# Altium integrated library TI Power Management Lighting and Display.IntLib: 745 symbols (part 26 of 48)
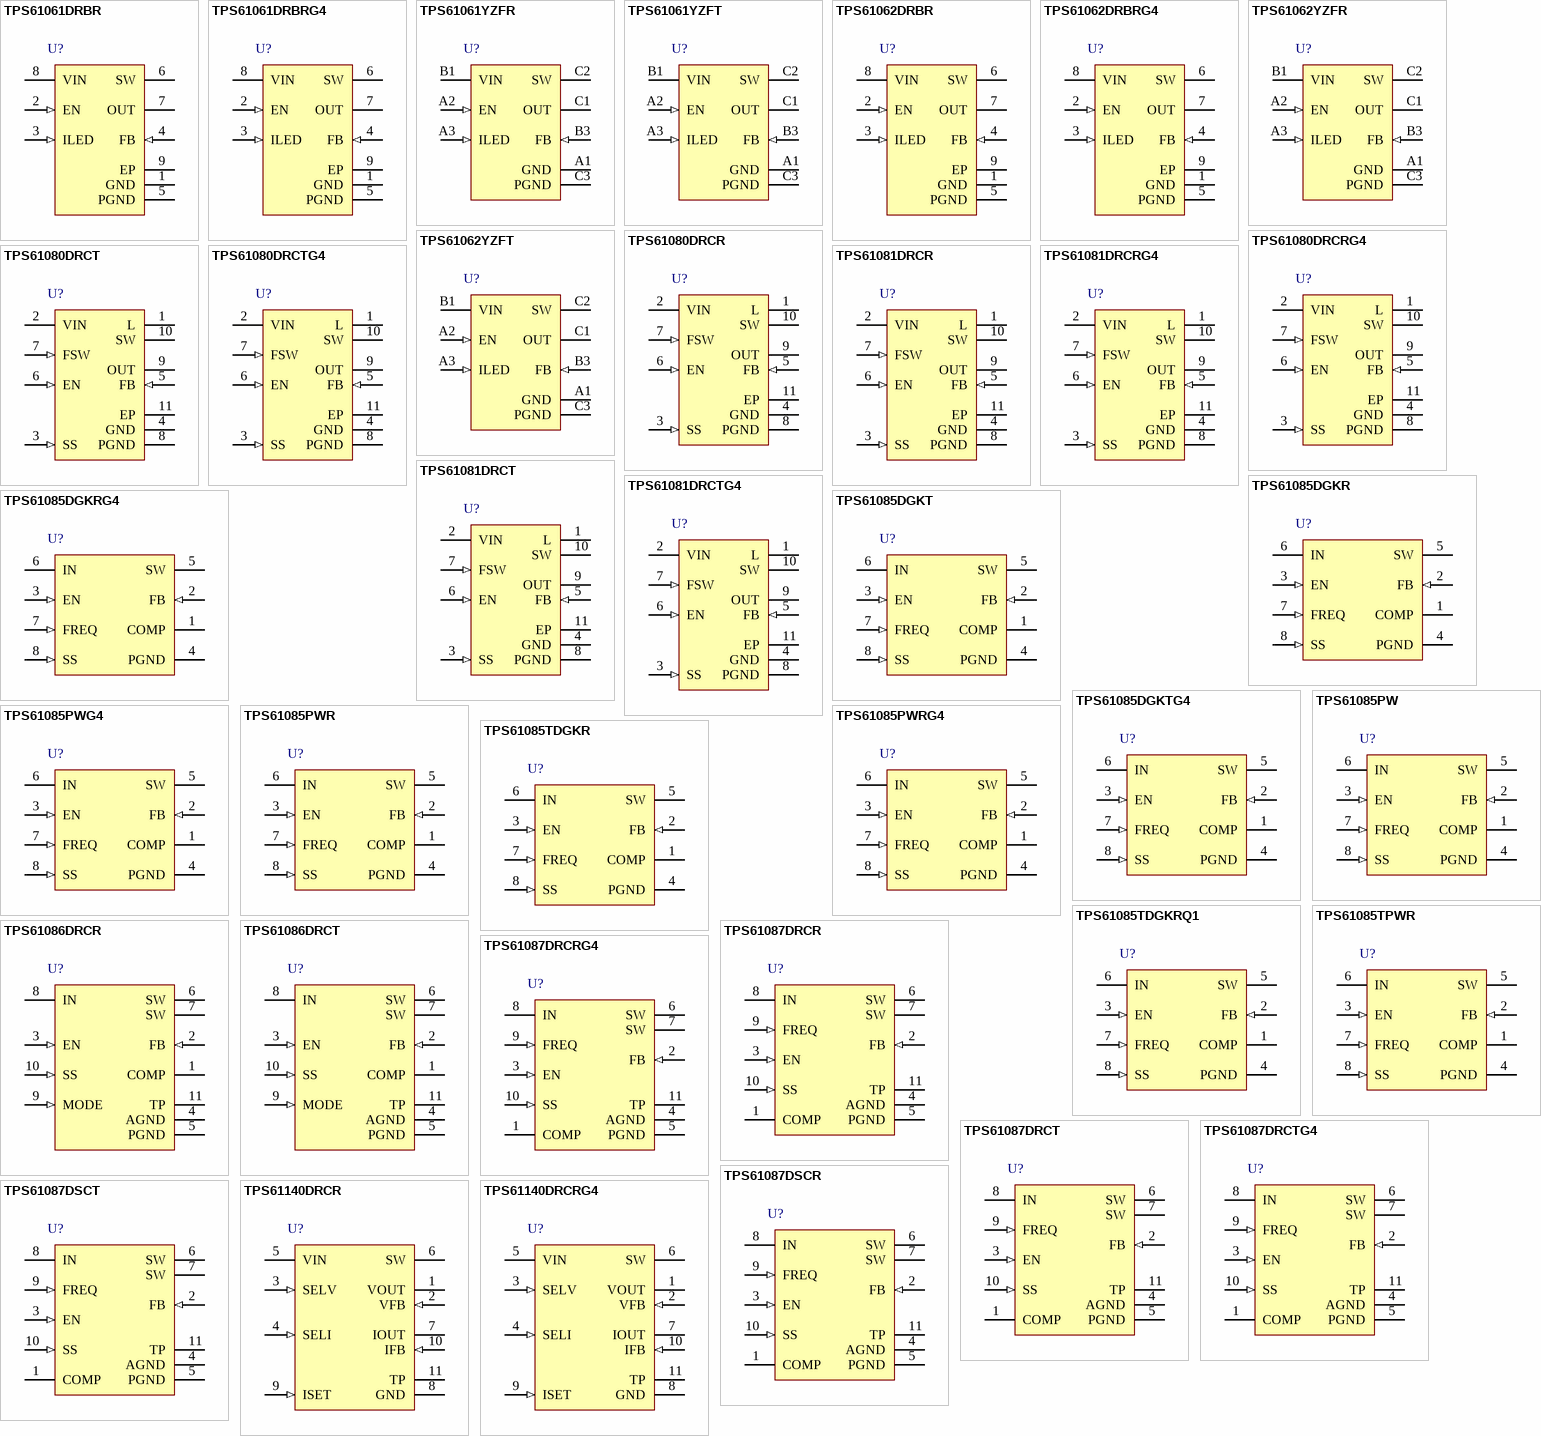
[diagram p56: symbols TPS61061DRBR to TPS61140DRCRG4]

## TPS61080DRCRG4
designator U?
27 V, 500 mA Switch, 1.2 MHz Boost Converter with Integrated Power Diode, 2.5 to 6 V, -40 to 85 degC, 10-pin SON (DRC10), Green (RoHS & no Sb/Br); Manufacturer: Texas Instruments; PartNumber: TPS61080DRCRG4; Iout(Max)(A): 0.2; Iq(Typ)(mA): 6; Rating: Catalog; SubFamily: White LED Driver; Switching Frequency(Max)(kHz): 1200; Synchronous Rectification: TRUE; Vin(Min)(V): 2.5; DatasheetVersion: SLVS644C; PackageVersion: 4204102-3/L; PackageReference: DRC10-2400X1650TP; PackageDescription: 10-Pin Plastic Small Outline, Body 3 x 3 mm, Pitch 0.5 mm; Supplier 1: Digi-Key; Supplier Part Number 1: TPS61080DRCRG4-ND; Supplier 2: Newark; Supplier Part Number 2: 34M0181; Supplier 3: Mouser; Supplier Part Number 3: 595-TPS61080DRCRG4; Eco-Plan: Green (RoHS & no Sb/Br); Topology: Boost; Vin(Max)(V): 6; Mounting Technology: Surface Mount; ComponentLink1Description: Manufacturer URL; ComponentLink1URL: http://www.ti.com/; ComponentLink2Description: Datasheet; ComponentLink2URL: http://www.ti.com/general/docs/lit/getliterature.tsp?genericPartNumber=TPS61080&fileType=pdf; ComponentLink3Description: Package Specification; ComponentLink3URL: http://www.ti.com/litv/pdf/mpds117k
footprint TI-DRC10-2400X1650TP_V (SON, 10-Leads, Body 3x3mm, Pitch 0.5mm, Thermal Pad 3x1.65mm)
pins: 1 L (power) "The inductor is connected between this pin and the SW pin. This pin connects to the source of the isolation FET as well. Minimize trace area at this pin to reduce EMI.", 2 VIN (power) "Input pin to the IC. It is the input to the boost regulator, and also powers the IC circuit. It is connected tothe drain of the isolation FET as well.", 3 SS (in) "Soft start programming pin. A capacitor between the SS pin and GND pin programs soft start timing.", 4 GND (power) "Signal ground of the IC", 5 FB (in) "Voltage feedback pin for the output regulation. It is regulated to an internal reference voltage. An external voltage divider from the output to GND with the center tap connected to this pin programs the regulated voltage. (See Datasheet)", 6 EN (in) "Enable pin. When the voltage of this pin falls below enable threshold for more than 74ms, the IC turns off and consumes less than 2 uA current.", 7 FSW (in) "Switching frequency selection pin. Logic high on the pin selects 1.2MHz, while logic low reduces the frequency to 600KHz for better light load efficiency.", 8 PGND (power) "Power ground of the IC. It is connected to the source of the PWM switch. This pin should be made very close to the output capacitor in layout.", 9 OUT (power) "Output of the boost regulator. When the output voltage exceeds the 27V overvoltage protection (OVP) threshold, the PWM switch turns off until Vout drops 0.7V below the overvoltage threshold.", 10 SW (power) "Switching node of the IC. Connect the inductor between this pin and the L pin.", 11 EP (power) "The thermal pad should be soldered to the analog ground. If possible, use thermal via to connect to ground plane for ideal power dissipation."

## TPS61080DRCT
designator U?
27 V, 500 mA Switch, 1.2 MHz Boost Converter with Integrated Power Diode, 2.5 to 6 V, -40 to 85 degC, 10-pin SON (DRC10), Green (RoHS & no Sb/Br); Manufacturer: Texas Instruments; PartNumber: TPS61080DRCT; Iout(Max)(A): 0.2; Iq(Typ)(mA): 6; Rating: Catalog; SubFamily: White LED Driver; Switching Frequency(Max)(kHz): 1200; Synchronous Rectification: TRUE; Vin(Min)(V): 2.5; DatasheetVersion: SLVS644C; PackageVersion: 4204102-3/L; PackageReference: DRC10-2400X1650TP; PackageDescription: 10-Pin Plastic Small Outline, Body 3 x 3 mm, Pitch 0.5 mm; Supplier 1: Digi-Key; Supplier Part Number 1: 296-21555-2-ND; Supplier 2: Digi-Key; Supplier Part Number 2: 296-21555-1-ND; Supplier 3: Digi-Key; Supplier Part Number 3: 296-21555-6-ND; Supplier 4: Newark; Supplier Part Number 4: 59M9398; Supplier 5: Mouser; Supplier Part Number 5: 595-TPS61080DRCT; Eco-Plan: Green (RoHS & no Sb/Br); Topology: Boost; Vin(Max)(V): 6; Mounting Technology: Surface Mount; ComponentLink1Description: Manufacturer URL; ComponentLink1URL: http://www.ti.com/; ComponentLink2Description: Datasheet; ComponentLink2URL: http://www.ti.com/general/docs/lit/getliterature.tsp?genericPartNumber=TPS61080&fileType=pdf; ComponentLink3Description: Package Specification; ComponentLink3URL: http://www.ti.com/litv/pdf/mpds117k
footprint TI-DRC10-2400X1650TP_V (SON, 10-Leads, Body 3x3mm, Pitch 0.5mm, Thermal Pad 3x1.65mm)
pins: 1 L (power) "The inductor is connected between this pin and the SW pin. This pin connects to the source of the isolation FET as well. Minimize trace area at this pin to reduce EMI.", 2 VIN (power) "Input pin to the IC. It is the input to the boost regulator, and also powers the IC circuit. It is connected tothe drain of the isolation FET as well.", 3 SS (in) "Soft start programming pin. A capacitor between the SS pin and GND pin programs soft start timing.", 4 GND (power) "Signal ground of the IC", 5 FB (in) "Voltage feedback pin for the output regulation. It is regulated to an internal reference voltage. An external voltage divider from the output to GND with the center tap connected to this pin programs the regulated voltage. (See Datasheet)", 6 EN (in) "Enable pin. When the voltage of this pin falls below enable threshold for more than 74ms, the IC turns off and consumes less than 2 uA current.", 7 FSW (in) "Switching frequency selection pin. Logic high on the pin selects 1.2MHz, while logic low reduces the frequency to 600KHz for better light load efficiency.", 8 PGND (power) "Power ground of the IC. It is connected to the source of the PWM switch. This pin should be made very close to the output capacitor in layout.", 9 OUT (power) "Output of the boost regulator. When the output voltage exceeds the 27V overvoltage protection (OVP) threshold, the PWM switch turns off until Vout drops 0.7V below the overvoltage threshold.", 10 SW (power) "Switching node of the IC. Connect the inductor between this pin and the L pin.", 11 EP (power) "The thermal pad should be soldered to the analog ground. If possible, use thermal via to connect to ground plane for ideal power dissipation."

## TPS61080DRCTG4
designator U?
27 V, 500 mA Switch, 1.2 MHz Boost Converter with Integrated Power Diode, 2.5 to 6 V, -40 to 85 degC, 10-pin SON (DRC10), Green (RoHS & no Sb/Br); Manufacturer: Texas Instruments; PartNumber: TPS61080DRCTG4; Iout(Max)(A): 0.2; Iq(Typ)(mA): 6; Rating: Catalog; SubFamily: White LED Driver; Switching Frequency(Max)(kHz): 1200; Synchronous Rectification: TRUE; Vin(Min)(V): 2.5; DatasheetVersion: SLVS644C; PackageVersion: 4204102-3/L; PackageReference: DRC10-2400X1650TP; PackageDescription: 10-Pin Plastic Small Outline, Body 3 x 3 mm, Pitch 0.5 mm; Supplier 1: Digi-Key; Supplier Part Number 1: TPS61080DRCTG4-ND; Supplier 2: Farnell; Supplier Part Number 2: 1344378; Supplier 3: Farnell; Supplier Part Number 3: 1344378RL; Supplier 4: Newark; Supplier Part Number 4: 51M8057; Supplier 5: Newark; Supplier Part Number 5: 34M0182; Supplier 6: Mouser; Supplier Part Number 6: 595-TPS61080DRCTG4; Eco-Plan: Green (RoHS & no Sb/Br); Topology: Boost; Vin(Max)(V): 6; Mounting Technology: Surface Mount; ComponentLink1Description: Manufacturer URL; ComponentLink1URL: http://www.ti.com/; ComponentLink2Description: Datasheet; ComponentLink2URL: http://www.ti.com/general/docs/lit/getliterature.tsp?genericPartNumber=TPS61080&fileType=pdf; ComponentLink3Description: Package Specification; ComponentLink3URL: http://www.ti.com/litv/pdf/mpds117k
footprint TI-DRC10-2400X1650TP_V (SON, 10-Leads, Body 3x3mm, Pitch 0.5mm, Thermal Pad 3x1.65mm)
pins: 1 L (power) "The inductor is connected between this pin and the SW pin. This pin connects to the source of the isolation FET as well. Minimize trace area at this pin to reduce EMI.", 2 VIN (power) "Input pin to the IC. It is the input to the boost regulator, and also powers the IC circuit. It is connected tothe drain of the isolation FET as well.", 3 SS (in) "Soft start programming pin. A capacitor between the SS pin and GND pin programs soft start timing.", 4 GND (power) "Signal ground of the IC", 5 FB (in) "Voltage feedback pin for the output regulation. It is regulated to an internal reference voltage. An external voltage divider from the output to GND with the center tap connected to this pin programs the regulated voltage. (See Datasheet)", 6 EN (in) "Enable pin. When the voltage of this pin falls below enable threshold for more than 74ms, the IC turns off and consumes less than 2 uA current.", 7 FSW (in) "Switching frequency selection pin. Logic high on the pin selects 1.2MHz, while logic low reduces the frequency to 600KHz for better light load efficiency.", 8 PGND (power) "Power ground of the IC. It is connected to the source of the PWM switch. This pin should be made very close to the output capacitor in layout.", 9 OUT (power) "Output of the boost regulator. When the output voltage exceeds the 27V overvoltage protection (OVP) threshold, the PWM switch turns off until Vout drops 0.7V below the overvoltage threshold.", 10 SW (power) "Switching node of the IC. Connect the inductor between this pin and the L pin.", 11 EP (power) "The thermal pad should be soldered to the analog ground. If possible, use thermal via to connect to ground plane for ideal power dissipation."

## TPS61081DRCR
designator U?
27 V, 1.2 A Switch, 1.2 MHz Boost Converter with Integrated Power Diode, 2.5 to 6 V, -40 to 85 degC, 10-pin SON (DRC10), Green (RoHS & no Sb/Br); Manufacturer: Texas Instruments; PartNumber: TPS61081DRCR; Iout(Max)(A): 0.35; Iq(Typ)(mA): 6; Rating: Catalog; SubFamily: White LED Driver; Switching Frequency(Max)(kHz): 1200; Synchronous Rectification: TRUE; Vin(Min)(V): 2.5; DatasheetVersion: SLVS644C; PackageVersion: 4204102-3/L; PackageReference: DRC10-2400X1650TP; PackageDescription: 10-Pin Plastic Small Outline, Body 3 x 3 mm, Pitch 0.5 mm; Supplier 1: Digi-Key; Supplier Part Number 1: 296-28007-2-ND; Supplier 2: Digi-Key; Supplier Part Number 2: 296-28007-1-ND; Supplier 3: Digi-Key; Supplier Part Number 3: 296-28007-6-ND; Supplier 4: Newark; Supplier Part Number 4: 30M1832; Supplier 5: Mouser; Supplier Part Number 5: 595-TPS61081DRCR; Eco-Plan: Green (RoHS & no Sb/Br); Topology: Boost; Vin(Max)(V): 6; Mounting Technology: Surface Mount; ComponentLink1Description: Manufacturer URL; ComponentLink1URL: http://www.ti.com/; ComponentLink2Description: Datasheet; ComponentLink2URL: http://www.ti.com/general/docs/lit/getliterature.tsp?genericPartNumber=TPS61081&fileType=pdf; ComponentLink3Description: Package Specification; ComponentLink3URL: http://www.ti.com/litv/pdf/mpds117k
footprint TI-DRC10-2400X1650TP_V (SON, 10-Leads, Body 3x3mm, Pitch 0.5mm, Thermal Pad 3x1.65mm)
pins: 1 L (power) "The inductor is connected between this pin and the SW pin. This pin connects to the source of the isolation FET as well. Minimize trace area at this pin to reduce EMI.", 2 VIN (power) "Input pin to the IC. It is the input to the boost regulator, and also powers the IC circuit. It is connected tothe drain of the isolation FET as well.", 3 SS (in) "Soft start programming pin. A capacitor between the SS pin and GND pin programs soft start timing.", 4 GND (power) "Signal ground of the IC", 5 FB (in) "Voltage feedback pin for the output regulation. It is regulated to an internal reference voltage. An external voltage divider from the output to GND with the center tap connected to this pin programs the regulated voltage. (See Datasheet)", 6 EN (in) "Enable pin. When the voltage of this pin falls below enable threshold for more than 74ms, the IC turns off and consumes less than 2 uA current.", 7 FSW (in) "Switching frequency selection pin. Logic high on the pin selects 1.2MHz, while logic low reduces the frequency to 600KHz for better light load efficiency.", 8 PGND (power) "Power ground of the IC. It is connected to the source of the PWM switch. This pin should be made very close to the output capacitor in layout.", 9 OUT (power) "Output of the boost regulator. When the output voltage exceeds the 27V overvoltage protection (OVP) threshold, the PWM switch turns off until Vout drops 0.7V below the overvoltage threshold.", 10 SW (power) "Switching node of the IC. Connect the inductor between this pin and the L pin.", 11 EP (power) "The thermal pad should be soldered to the analog ground. If possible, use thermal via to connect to ground plane for ideal power dissipation."

## TPS61081DRCRG4
designator U?
27 V, 1.2 A Switch, 1.2 MHz Boost Converter with Integrated Power Diode, 2.5 to 6 V, -40 to 85 degC, 10-pin SON (DRC10), Green (RoHS & no Sb/Br); Manufacturer: Texas Instruments; PartNumber: TPS61081DRCRG4; Iout(Max)(A): 0.35; Iq(Typ)(mA): 6; Rating: Catalog; SubFamily: White LED Driver; Switching Frequency(Max)(kHz): 1200; Synchronous Rectification: TRUE; Vin(Min)(V): 2.5; DatasheetVersion: SLVS644C; PackageVersion: 4204102-3/L; PackageReference: DRC10-2400X1650TP; PackageDescription: 10-Pin Plastic Small Outline, Body 3 x 3 mm, Pitch 0.5 mm; Supplier 1: Digi-Key; Supplier Part Number 1: TPS61081DRCRG4-ND; Supplier 2: Newark; Supplier Part Number 2: 34M0183; Supplier 3: Mouser; Supplier Part Number 3: 595-TPS61081DRCRG4; Eco-Plan: Green (RoHS & no Sb/Br); Topology: Boost; Vin(Max)(V): 6; Mounting Technology: Surface Mount; ComponentLink1Description: Manufacturer URL; ComponentLink1URL: http://www.ti.com/; ComponentLink2Description: Datasheet; ComponentLink2URL: http://www.ti.com/general/docs/lit/getliterature.tsp?genericPartNumber=TPS61081&fileType=pdf; ComponentLink3Description: Package Specification; ComponentLink3URL: http://www.ti.com/litv/pdf/mpds117k
footprint TI-DRC10-2400X1650TP_V (SON, 10-Leads, Body 3x3mm, Pitch 0.5mm, Thermal Pad 3x1.65mm)
pins: 1 L (power) "The inductor is connected between this pin and the SW pin. This pin connects to the source of the isolation FET as well. Minimize trace area at this pin to reduce EMI.", 2 VIN (power) "Input pin to the IC. It is the input to the boost regulator, and also powers the IC circuit. It is connected tothe drain of the isolation FET as well.", 3 SS (in) "Soft start programming pin. A capacitor between the SS pin and GND pin programs soft start timing.", 4 GND (power) "Signal ground of the IC", 5 FB (in) "Voltage feedback pin for the output regulation. It is regulated to an internal reference voltage. An external voltage divider from the output to GND with the center tap connected to this pin programs the regulated voltage. (See Datasheet)", 6 EN (in) "Enable pin. When the voltage of this pin falls below enable threshold for more than 74ms, the IC turns off and consumes less than 2 uA current.", 7 FSW (in) "Switching frequency selection pin. Logic high on the pin selects 1.2MHz, while logic low reduces the frequency to 600KHz for better light load efficiency.", 8 PGND (power) "Power ground of the IC. It is connected to the source of the PWM switch. This pin should be made very close to the output capacitor in layout.", 9 OUT (power) "Output of the boost regulator. When the output voltage exceeds the 27V overvoltage protection (OVP) threshold, the PWM switch turns off until Vout drops 0.7V below the overvoltage threshold.", 10 SW (power) "Switching node of the IC. Connect the inductor between this pin and the L pin.", 11 EP (power) "The thermal pad should be soldered to the analog ground. If possible, use thermal via to connect to ground plane for ideal power dissipation."

## TPS61081DRCT
designator U?
27 V, 1.2 A Switch, 1.2 MHz Boost Converter with Integrated Power Diode, 2.5 to 6 V, -40 to 85 degC, 10-pin SON (DRC10), Green (RoHS & no Sb/Br); Manufacturer: Texas Instruments; PartNumber: TPS61081DRCT; Iout(Max)(A): 0.35; Iq(Typ)(mA): 6; Rating: Catalog; SubFamily: White LED Driver; Switching Frequency(Max)(kHz): 1200; Synchronous Rectification: TRUE; Vin(Min)(V): 2.5; DatasheetVersion: SLVS644C; PackageVersion: 4204102-3/L; PackageReference: DRC10-2400X1650TP; PackageDescription: 10-Pin Plastic Small Outline, Body 3 x 3 mm, Pitch 0.5 mm; Supplier 1: Digi-Key; Supplier Part Number 1: 296-21556-2-ND; Supplier 2: Digi-Key; Supplier Part Number 2: 296-21556-1-ND; Supplier 3: Digi-Key; Supplier Part Number 3: 296-21556-6-ND; Supplier 4: Newark; Supplier Part Number 4: 30M1833; Supplier 5: Mouser; Supplier Part Number 5: 595-TPS61081DRCT; Eco-Plan: Green (RoHS & no Sb/Br); Topology: Boost; Vin(Max)(V): 6; Mounting Technology: Surface Mount; ComponentLink1Description: Manufacturer URL; ComponentLink1URL: http://www.ti.com/; ComponentLink2Description: Datasheet; ComponentLink2URL: http://www.ti.com/general/docs/lit/getliterature.tsp?genericPartNumber=TPS61081&fileType=pdf; ComponentLink3Description: Package Specification; ComponentLink3URL: http://www.ti.com/litv/pdf/mpds117k
footprint TI-DRC10-2400X1650TP_V (SON, 10-Leads, Body 3x3mm, Pitch 0.5mm, Thermal Pad 3x1.65mm)
pins: 1 L (power) "The inductor is connected between this pin and the SW pin. This pin connects to the source of the isolation FET as well. Minimize trace area at this pin to reduce EMI.", 2 VIN (power) "Input pin to the IC. It is the input to the boost regulator, and also powers the IC circuit. It is connected tothe drain of the isolation FET as well.", 3 SS (in) "Soft start programming pin. A capacitor between the SS pin and GND pin programs soft start timing.", 4 GND (power) "Signal ground of the IC", 5 FB (in) "Voltage feedback pin for the output regulation. It is regulated to an internal reference voltage. An external voltage divider from the output to GND with the center tap connected to this pin programs the regulated voltage. (See Datasheet)", 6 EN (in) "Enable pin. When the voltage of this pin falls below enable threshold for more than 74ms, the IC turns off and consumes less than 2 uA current.", 7 FSW (in) "Switching frequency selection pin. Logic high on the pin selects 1.2MHz, while logic low reduces the frequency to 600KHz for better light load efficiency.", 8 PGND (power) "Power ground of the IC. It is connected to the source of the PWM switch. This pin should be made very close to the output capacitor in layout.", 9 OUT (power) "Output of the boost regulator. When the output voltage exceeds the 27V overvoltage protection (OVP) threshold, the PWM switch turns off until Vout drops 0.7V below the overvoltage threshold.", 10 SW (power) "Switching node of the IC. Connect the inductor between this pin and the L pin.", 11 EP (power) "The thermal pad should be soldered to the analog ground. If possible, use thermal via to connect to ground plane for ideal power dissipation."

## TPS61081DRCTG4
designator U?
27 V, 1.2 A Switch, 1.2 MHz Boost Converter with Integrated Power Diode, 2.5 to 6 V, -40 to 85 degC, 10-pin SON (DRC10), Green (RoHS & no Sb/Br); Manufacturer: Texas Instruments; PartNumber: TPS61081DRCTG4; Iout(Max)(A): 0.35; Iq(Typ)(mA): 6; Rating: Catalog; SubFamily: White LED Driver; Switching Frequency(Max)(kHz): 1200; Synchronous Rectification: TRUE; Vin(Min)(V): 2.5; DatasheetVersion: SLVS644C; PackageVersion: 4204102-3/L; PackageReference: DRC10-2400X1650TP; PackageDescription: 10-Pin Plastic Small Outline, Body 3 x 3 mm, Pitch 0.5 mm; Supplier 1: Digi-Key; Supplier Part Number 1: TPS61081DRCTG4-ND; Supplier 2: Farnell; Supplier Part Number 2: 1344379; Supplier 3: Farnell; Supplier Part Number 3: 1344379RL; Supplier 4: Newark; Supplier Part Number 4: 75T9692; Supplier 5: Newark; Supplier Part Number 5: 34M0184; Supplier 6: Mouser; Supplier Part Number 6: 595-TPS61081DRCTG4; Eco-Plan: Green (RoHS & no Sb/Br); Topology: Boost; Vin(Max)(V): 6; Mounting Technology: Surface Mount; ComponentLink1Description: Manufacturer URL; ComponentLink1URL: http://www.ti.com/; ComponentLink2Description: Datasheet; ComponentLink2URL: http://www.ti.com/general/docs/lit/getliterature.tsp?genericPartNumber=TPS61081&fileType=pdf; ComponentLink3Description: Package Specification; ComponentLink3URL: http://www.ti.com/litv/pdf/mpds117k
footprint TI-DRC10-2400X1650TP_V (SON, 10-Leads, Body 3x3mm, Pitch 0.5mm, Thermal Pad 3x1.65mm)
pins: 1 L (power) "The inductor is connected between this pin and the SW pin. This pin connects to the source of the isolation FET as well. Minimize trace area at this pin to reduce EMI.", 2 VIN (power) "Input pin to the IC. It is the input to the boost regulator, and also powers the IC circuit. It is connected tothe drain of the isolation FET as well.", 3 SS (in) "Soft start programming pin. A capacitor between the SS pin and GND pin programs soft start timing.", 4 GND (power) "Signal ground of the IC", 5 FB (in) "Voltage feedback pin for the output regulation. It is regulated to an internal reference voltage. An external voltage divider from the output to GND with the center tap connected to this pin programs the regulated voltage. (See Datasheet)", 6 EN (in) "Enable pin. When the voltage of this pin falls below enable threshold for more than 74ms, the IC turns off and consumes less than 2 uA current.", 7 FSW (in) "Switching frequency selection pin. Logic high on the pin selects 1.2MHz, while logic low reduces the frequency to 600KHz for better light load efficiency.", 8 PGND (power) "Power ground of the IC. It is connected to the source of the PWM switch. This pin should be made very close to the output capacitor in layout.", 9 OUT (power) "Output of the boost regulator. When the output voltage exceeds the 27V overvoltage protection (OVP) threshold, the PWM switch turns off until Vout drops 0.7V below the overvoltage threshold.", 10 SW (power) "Switching node of the IC. Connect the inductor between this pin and the L pin.", 11 EP (power) "The thermal pad should be soldered to the analog ground. If possible, use thermal via to connect to ground plane for ideal power dissipation."

## TPS61085DGKR
designator U?
18.5 V, 2 A, 650 KHz / 1.2 MHz Step-Up DC-DC Converter with Forced PWM Mode, 2.3 to 6 V, -40 to 85 degC, 8-pin SOP (DGK8), Green (RoHS & no Sb/Br); Manufacturer: Texas Instruments; PartNumber: TPS61085DGKR; Iout(Max)(A): 2; Iq(Typ)(mA): 0.07; Rating: Catalog; SubFamily: White LED Driver; Switching Frequency(Typ)(kHz): 650, 1200; Topology: Boost; Vin(Max)(V): 6; Vin(Min)(V): 2.3; DatasheetVersion: SLVS859; PackageVersion: 4073329/E; PackageReference: DGK8; PackageDescription: 8-Pin Thin Small Outline Package 3 x 3 mm Body ,0.65 mm Pitch; Supplier 1: Digi-Key; Supplier Part Number 1: TPS61085DGKR-ND; Supplier 2: Mouser; Supplier Part Number 2: 595-TPS61085DGKR; Eco-Plan: Green (RoHS & no Sb/Br); Mounting Technology: Surface Mount; Code_JEDEC: MO-187; ComponentLink1Description: Manufacturer URL; ComponentLink1URL: http://www.ti.com/; ComponentLink2Description: Datasheet; ComponentLink2URL: http://www.ti.com/general/docs/lit/getliterature.tsp?genericPartNumber=TPS61085&fileType=pdf; ComponentLink3Description: Package Specification; ComponentLink3URL: http://www.ti.com/litv/pdf/mpds028d
footprint TI-DGK8_N (SOP, 8-Leads, Body 3x3mm, Pitch 0.65mm, IPC Medium Density)
footprint TI-DGK8_L (SOP, 8-Leads, Body 3x3mm, Pitch 0.65mm, IPC High Density)
footprint TI-DGK8_M (SOP, 8-Leads, Body 3x3mm, Pitch 0.65mm, IPC Low Density)
pins: 1 COMP "Compensation pin", 2 FB (in) "Feedback pin", 3 EN (in) "Shutdown control input. Connect this pin to logic high level to enable the device", 4 PGND (power) "Power ground", 5 SW (power) "Switch pin", 6 IN (power) "Input supply pin", 7 FREQ (in) "Frequency select pin. The power switch operates at 650 kHz if FREQ is connected to GND and at 1.2 MHz if FREQ is connected to IN", 8 SS (in) "Soft-start control pin. Connect a capacitor to this pin if soft-start needed. Open = no soft-start"

## TPS61085DGKRG4
designator U?
18.5 V, 2 A, 650 KHz / 1.2 MHz Step-Up DC-DC Converter with Forced PWM Mode, 2.3 to 6 V, -40 to 85 degC, 8-pin SOP (DGK8), Green (RoHS & no Sb/Br); Manufacturer: Texas Instruments; PartNumber: TPS61085DGKRG4; Iout(Max)(A): 2; Iq(Typ)(mA): 0.07; Rating: Catalog; SubFamily: White LED Driver; Switching Frequency(Typ)(kHz): 650, 1200; Topology: Boost; Vin(Max)(V): 6; Vin(Min)(V): 2.3; DatasheetVersion: SLVS859; PackageVersion: 4073329/E; PackageReference: DGK8; PackageDescription: 8-Pin Thin Small Outline Package 3 x 3 mm Body ,0.65 mm Pitch; Supplier 1: Digi-Key; Supplier Part Number 1: TPS61085DGKRG4-ND; Supplier 2: Mouser; Supplier Part Number 2: 595-TPS61085DGKRG4; Eco-Plan: Green (RoHS & no Sb/Br); Mounting Technology: Surface Mount; Code_JEDEC: MO-187; ComponentLink1Description: Manufacturer URL; ComponentLink1URL: http://www.ti.com/; ComponentLink2Description: Datasheet; ComponentLink2URL: http://www.ti.com/general/docs/lit/getliterature.tsp?genericPartNumber=TPS61085&fileType=pdf; ComponentLink3Description: Package Specification; ComponentLink3URL: http://www.ti.com/litv/pdf/mpds028d
footprint TI-DGK8_N (SOP, 8-Leads, Body 3x3mm, Pitch 0.65mm, IPC Medium Density)
footprint TI-DGK8_L (SOP, 8-Leads, Body 3x3mm, Pitch 0.65mm, IPC High Density)
footprint TI-DGK8_M (SOP, 8-Leads, Body 3x3mm, Pitch 0.65mm, IPC Low Density)
pins: 1 COMP "Compensation pin", 2 FB (in) "Feedback pin", 3 EN (in) "Shutdown control input. Connect this pin to logic high level to enable the device", 4 PGND (power) "Power ground", 5 SW (power) "Switch pin", 6 IN (power) "Input supply pin", 7 FREQ (in) "Frequency select pin. The power switch operates at 650 kHz if FREQ is connected to GND and at 1.2 MHz if FREQ is connected to IN", 8 SS (in) "Soft-start control pin. Connect a capacitor to this pin if soft-start needed. Open = no soft-start"

## TPS61085DGKT
designator U?
18.5 V, 2 A, 650 KHz / 1.2 MHz Step-Up DC-DC Converter with Forced PWM Mode, 2.3 to 6 V, -40 to 85 degC, 8-pin SOP (DGK8), Green (RoHS & no Sb/Br); Manufacturer: Texas Instruments; PartNumber: TPS61085DGKT; Iout(Max)(A): 2; Iq(Typ)(mA): 0.07; Rating: Catalog; SubFamily: White LED Driver; Switching Frequency(Typ)(kHz): 650, 1200; Topology: Boost; Vin(Max)(V): 6; Vin(Min)(V): 2.3; DatasheetVersion: SLVS859; PackageVersion: 4073329/E; PackageReference: DGK8; PackageDescription: 8-Pin Thin Small Outline Package 3 x 3 mm Body ,0.65 mm Pitch; Supplier 1: Digi-Key; Supplier Part Number 1: 296-23550-2-ND; Supplier 2: Digi-Key; Supplier Part Number 2: 296-23550-1-ND; Supplier 3: Digi-Key; Supplier Part Number 3: 296-23550-6-ND; Supplier 4: Farnell; Supplier Part Number 4: 1755641; Supplier 5: Farnell; Supplier Part Number 5: 1755641RL; Supplier 6: Newark; Supplier Part Number 6: 75T9693; Supplier 7: Mouser; Supplier Part Number 7: 595-TPS61085DGKT; Eco-Plan: Green (RoHS & no Sb/Br); Mounting Technology: Surface Mount; Code_JEDEC: MO-187; ComponentLink1Description: Manufacturer URL; ComponentLink1URL: http://www.ti.com/; ComponentLink2Description: Datasheet; ComponentLink2URL: http://www.ti.com/general/docs/lit/getliterature.tsp?genericPartNumber=TPS61085&fileType=pdf; ComponentLink3Description: Package Specification; ComponentLink3URL: http://www.ti.com/litv/pdf/mpds028d
footprint TI-DGK8_N (SOP, 8-Leads, Body 3x3mm, Pitch 0.65mm, IPC Medium Density)
footprint TI-DGK8_L (SOP, 8-Leads, Body 3x3mm, Pitch 0.65mm, IPC High Density)
footprint TI-DGK8_M (SOP, 8-Leads, Body 3x3mm, Pitch 0.65mm, IPC Low Density)
pins: 1 COMP "Compensation pin", 2 FB (in) "Feedback pin", 3 EN (in) "Shutdown control input. Connect this pin to logic high level to enable the device", 4 PGND (power) "Power ground", 5 SW (power) "Switch pin", 6 IN (power) "Input supply pin", 7 FREQ (in) "Frequency select pin. The power switch operates at 650 kHz if FREQ is connected to GND and at 1.2 MHz if FREQ is connected to IN", 8 SS (in) "Soft-start control pin. Connect a capacitor to this pin if soft-start needed. Open = no soft-start"

## TPS61085DGKTG4
designator U?
18.5 V, 2 A, 650 KHz / 1.2 MHz Step-Up DC-DC Converter with Forced PWM Mode, 2.3 to 6 V, -40 to 85 degC, 8-pin SOP (DGK8), Green (RoHS & no Sb/Br); Manufacturer: Texas Instruments; PartNumber: TPS61085DGKTG4; Iout(Max)(A): 2; Iq(Typ)(mA): 0.07; Rating: Catalog; SubFamily: White LED Driver; Switching Frequency(Typ)(kHz): 650, 1200; Topology: Boost; Vin(Max)(V): 6; Vin(Min)(V): 2.3; DatasheetVersion: SLVS859; PackageVersion: 4073329/E; PackageReference: DGK8; PackageDescription: 8-Pin Thin Small Outline Package 3 x 3 mm Body ,0.65 mm Pitch; Supplier 1: Digi-Key; Supplier Part Number 1: TPS61085DGKTG4-ND; Supplier 2: Mouser; Supplier Part Number 2: 595-TPS61085DGKTG4; Eco-Plan: Green (RoHS & no Sb/Br); Mounting Technology: Surface Mount; Code_JEDEC: MO-187; ComponentLink1Description: Manufacturer URL; ComponentLink1URL: http://www.ti.com/; ComponentLink2Description: Datasheet; ComponentLink2URL: http://www.ti.com/general/docs/lit/getliterature.tsp?genericPartNumber=TPS61085&fileType=pdf; ComponentLink3Description: Package Specification; ComponentLink3URL: http://www.ti.com/litv/pdf/mpds028d
footprint TI-DGK8_N (SOP, 8-Leads, Body 3x3mm, Pitch 0.65mm, IPC Medium Density)
footprint TI-DGK8_L (SOP, 8-Leads, Body 3x3mm, Pitch 0.65mm, IPC High Density)
footprint TI-DGK8_M (SOP, 8-Leads, Body 3x3mm, Pitch 0.65mm, IPC Low Density)
pins: 1 COMP "Compensation pin", 2 FB (in) "Feedback pin", 3 EN (in) "Shutdown control input. Connect this pin to logic high level to enable the device", 4 PGND (power) "Power ground", 5 SW (power) "Switch pin", 6 IN (power) "Input supply pin", 7 FREQ (in) "Frequency select pin. The power switch operates at 650 kHz if FREQ is connected to GND and at 1.2 MHz if FREQ is connected to IN", 8 SS (in) "Soft-start control pin. Connect a capacitor to this pin if soft-start needed. Open = no soft-start"

## TPS61085PW
designator U?
18.5 V, 2 A, 650 KHz / 1.2 MHz Step-Up DC-DC Converter with Forced PWM Mode, 2.3 to 6 V, -40 to 85 degC, 8-pin SOP (PW8), Green (RoHS & no Sb/Br); Manufacturer: Texas Instruments; PartNumber: TPS61085PW; Iout(Max)(A): 2; Iq(Typ)(mA): 0.07; Rating: Catalog; SubFamily: White LED Driver; Switching Frequency(Typ)(kHz): 650, 1200; Topology: Boost; Vin(Max)(V): 6; Vin(Min)(V): 2.3; DatasheetVersion: SLVS859; PackageVersion: 4040064-2/G; PackageReference: PW8; PackageDescription: 8-Pin Plastic Small Outline, Body 4.4 x 3 mm, Pitch 0.65 mm; Supplier 1: Digi-Key; Supplier Part Number 1: 296-27011-ND; Supplier 2: Farnell; Supplier Part Number 2: 1903399; Supplier 3: Newark; Supplier Part Number 3: 55T3962; Supplier 4: Mouser; Supplier Part Number 4: 595-TPS61085PW; Eco-Plan: Green (RoHS & no Sb/Br); Mounting Technology: Surface Mount; Code_JEDEC: MO-153; ComponentLink1Description: Manufacturer URL; ComponentLink1URL: http://www.ti.com/; ComponentLink2Description: Datasheet; ComponentLink2URL: http://www.ti.com/general/docs/lit/getliterature.tsp?genericPartNumber=TPS61085&fileType=pdf; ComponentLink3Description: Package Specification; ComponentLink3URL: http://www.ti.com/litv/pdf/mtss001d
footprint TI-PW8_N (SOP, 8-Leads, Body 4.4x3mm, Pitch 0.65mm, IPC Medium Density)
footprint TI-PW8_L (SOP, 8-Leads, Body 4.4x3mm, Pitch 0.65mm, IPC High Density)
footprint TI-PW8_M (SOP, 8-Leads, Body 4.4x3mm, Pitch 0.65mm, IPC Low Density)
pins: 1 COMP "Compensation pin", 2 FB (in) "Feedback pin", 3 EN (in) "Shutdown control input. Connect this pin to logic high level to enable the device", 4 PGND (power) "Power ground", 5 SW (power) "Switch pin", 6 IN (power) "Input supply pin", 7 FREQ (in) "Frequency select pin. The power switch operates at 650 kHz if FREQ is connected to GND and at 1.2 MHz if FREQ is connected to IN", 8 SS (in) "Soft-start control pin. Connect a capacitor to this pin if soft-start needed. Open = no soft-start"

## TPS61085PWG4
designator U?
18.5 V, 2 A, 650 KHz / 1.2 MHz Step-Up DC-DC Converter with Forced PWM Mode, 2.3 to 6 V, -40 to 85 degC, 8-pin SOP (PW8), Green (RoHS & no Sb/Br); Manufacturer: Texas Instruments; PartNumber: TPS61085PWG4; Iout(Max)(A): 2; Iq(Typ)(mA): 0.07; Rating: Catalog; SubFamily: White LED Driver; Switching Frequency(Typ)(kHz): 650, 1200; Topology: Boost; Vin(Max)(V): 6; Vin(Min)(V): 2.3; DatasheetVersion: SLVS859; PackageVersion: 4040064-2/G; PackageReference: PW8; PackageDescription: 8-Pin Plastic Small Outline, Body 4.4 x 3 mm, Pitch 0.65 mm; Supplier 1: Digi-Key; Supplier Part Number 1: TPS61085PWG4-ND; Supplier 2: Mouser; Supplier Part Number 2: 595-TPS61085PWG4; Eco-Plan: Green (RoHS & no Sb/Br); Mounting Technology: Surface Mount; Code_JEDEC: MO-153; ComponentLink1Description: Manufacturer URL; ComponentLink1URL: http://www.ti.com/; ComponentLink2Description: Datasheet; ComponentLink2URL: http://www.ti.com/general/docs/lit/getliterature.tsp?genericPartNumber=TPS61085&fileType=pdf; ComponentLink3Description: Package Specification; ComponentLink3URL: http://www.ti.com/litv/pdf/mtss001d
footprint TI-PW8_N (SOP, 8-Leads, Body 4.4x3mm, Pitch 0.65mm, IPC Medium Density)
footprint TI-PW8_L (SOP, 8-Leads, Body 4.4x3mm, Pitch 0.65mm, IPC High Density)
footprint TI-PW8_M (SOP, 8-Leads, Body 4.4x3mm, Pitch 0.65mm, IPC Low Density)
pins: 1 COMP "Compensation pin", 2 FB (in) "Feedback pin", 3 EN (in) "Shutdown control input. Connect this pin to logic high level to enable the device", 4 PGND (power) "Power ground", 5 SW (power) "Switch pin", 6 IN (power) "Input supply pin", 7 FREQ (in) "Frequency select pin. The power switch operates at 650 kHz if FREQ is connected to GND and at 1.2 MHz if FREQ is connected to IN", 8 SS (in) "Soft-start control pin. Connect a capacitor to this pin if soft-start needed. Open = no soft-start"

## TPS61085PWR
designator U?
18.5 V, 2 A, 650 KHz / 1.2 MHz Step-Up DC-DC Converter with Forced PWM Mode, 2.3 to 6 V, -40 to 85 degC, 8-pin SOP (PW8), Green (RoHS & no Sb/Br); Manufacturer: Texas Instruments; PartNumber: TPS61085PWR; Iout(Max)(A): 2; Iq(Typ)(mA): 0.07; Rating: Catalog; SubFamily: White LED Driver; Switching Frequency(Typ)(kHz): 650, 1200; Topology: Boost; Vin(Max)(V): 6; Vin(Min)(V): 2.3; DatasheetVersion: SLVS859; PackageVersion: 4040064-2/G; PackageReference: PW8; PackageDescription: 8-Pin Plastic Small Outline, Body 4.4 x 3 mm, Pitch 0.65 mm; Supplier 1: Digi-Key; Supplier Part Number 1: 296-23551-2-ND; Supplier 2: Digi-Key; Supplier Part Number 2: 296-23551-1-ND; Supplier 3: Digi-Key; Supplier Part Number 3: 296-23551-6-ND; Supplier 4: Newark; Supplier Part Number 4: 03P5223; Supplier 5: Mouser; Supplier Part Number 5: 595-TPS61085PWR; Eco-Plan: Green (RoHS & no Sb/Br); Mounting Technology: Surface Mount; Code_JEDEC: MO-153; ComponentLink1Description: Manufacturer URL; ComponentLink1URL: http://www.ti.com/; ComponentLink2Description: Datasheet; ComponentLink2URL: http://www.ti.com/general/docs/lit/getliterature.tsp?genericPartNumber=TPS61085&fileType=pdf; ComponentLink3Description: Package Specification; ComponentLink3URL: http://www.ti.com/litv/pdf/mtss001d
footprint TI-PW8_N (SOP, 8-Leads, Body 4.4x3mm, Pitch 0.65mm, IPC Medium Density)
footprint TI-PW8_L (SOP, 8-Leads, Body 4.4x3mm, Pitch 0.65mm, IPC High Density)
footprint TI-PW8_M (SOP, 8-Leads, Body 4.4x3mm, Pitch 0.65mm, IPC Low Density)
pins: 1 COMP "Compensation pin", 2 FB (in) "Feedback pin", 3 EN (in) "Shutdown control input. Connect this pin to logic high level to enable the device", 4 PGND (power) "Power ground", 5 SW (power) "Switch pin", 6 IN (power) "Input supply pin", 7 FREQ (in) "Frequency select pin. The power switch operates at 650 kHz if FREQ is connected to GND and at 1.2 MHz if FREQ is connected to IN", 8 SS (in) "Soft-start control pin. Connect a capacitor to this pin if soft-start needed. Open = no soft-start"

## TPS61085PWRG4
designator U?
18.5 V, 2 A, 650 KHz / 1.2 MHz Step-Up DC-DC Converter with Forced PWM Mode, 2.3 to 6 V, -40 to 85 degC, 8-pin SOP (PW8), Green (RoHS & no Sb/Br); Manufacturer: Texas Instruments; PartNumber: TPS61085PWRG4; Iout(Max)(A): 2; Iq(Typ)(mA): 0.07; Rating: Catalog; SubFamily: White LED Driver; Switching Frequency(Typ)(kHz): 650, 1200; Topology: Boost; Vin(Max)(V): 6; Vin(Min)(V): 2.3; DatasheetVersion: SLVS859; PackageVersion: 4040064-2/G; PackageReference: PW8; PackageDescription: 8-Pin Plastic Small Outline, Body 4.4 x 3 mm, Pitch 0.65 mm; Supplier 1: Digi-Key; Supplier Part Number 1: TPS61085PWRG4-ND; Supplier 2: Mouser; Supplier Part Number 2: 595-TPS61085PWRG4; Eco-Plan: Green (RoHS & no Sb/Br); Mounting Technology: Surface Mount; Code_JEDEC: MO-153; ComponentLink1Description: Manufacturer URL; ComponentLink1URL: http://www.ti.com/; ComponentLink2Description: Datasheet; ComponentLink2URL: http://www.ti.com/general/docs/lit/getliterature.tsp?genericPartNumber=TPS61085&fileType=pdf; ComponentLink3Description: Package Specification; ComponentLink3URL: http://www.ti.com/litv/pdf/mtss001d
footprint TI-PW8_N (SOP, 8-Leads, Body 4.4x3mm, Pitch 0.65mm, IPC Medium Density)
footprint TI-PW8_L (SOP, 8-Leads, Body 4.4x3mm, Pitch 0.65mm, IPC High Density)
footprint TI-PW8_M (SOP, 8-Leads, Body 4.4x3mm, Pitch 0.65mm, IPC Low Density)
pins: 1 COMP "Compensation pin", 2 FB (in) "Feedback pin", 3 EN (in) "Shutdown control input. Connect this pin to logic high level to enable the device", 4 PGND (power) "Power ground", 5 SW (power) "Switch pin", 6 IN (power) "Input supply pin", 7 FREQ (in) "Frequency select pin. The power switch operates at 650 kHz if FREQ is connected to GND and at 1.2 MHz if FREQ is connected to IN", 8 SS (in) "Soft-start control pin. Connect a capacitor to this pin if soft-start needed. Open = no soft-start"

## TPS61085TDGKR
designator U?
Step-Up DC-DC Converter with Forced PWM Mode, 2.3 to 6 V, -40 to 105 degC, 8-pin SOP (DGK8), Green (RoHS & no Sb/Br); Manufacturer: Texas Instruments; PartNumber: TPS61085TDGKR; Iout(Max)(A): 2; Iq(Typ)(mA): 0.07; Rating: Catalog; SubFamily: White LED Driver; Switching Frequency(Typ)(kHz): 650; Vin(Max)(V): 6; Vin(Min)(V): 2.3; DatasheetVersion: SLVSA41A; PackageVersion: 4073329/E; PackageReference: DGK8; PackageDescription: 8-Pin Thin Small Outline Package 3 x 3 mm Body ,0.65 mm Pitch; Supplier 1: Digi-Key; Supplier Part Number 1: TPS61085TDGKR-ND; Supplier 2: Newark; Supplier Part Number 2: 64R0759; Supplier 3: Mouser; Supplier Part Number 3: 595-TPS61085TDGKR; Mounting Technology: Surface Mount; Code_JEDEC: MO-187; ComponentLink1Description: Manufacturer URL; ComponentLink1URL: http://www.ti.com/; ComponentLink2Description: Datasheet; ComponentLink2URL: http://www.ti.com/general/docs/lit/getliterature.tsp?genericPartNumber=TPS61085T&fileType=pdf; ComponentLink3Description: Package Specification; ComponentLink3URL: http://www.ti.com/litv/pdf/mpds028d
footprint TI-DGK8_N (SOP, 8-Leads, Body 3x3mm, Pitch 0.65mm, IPC Medium Density)
footprint TI-DGK8_L (SOP, 8-Leads, Body 3x3mm, Pitch 0.65mm, IPC High Density)
footprint TI-DGK8_M (SOP, 8-Leads, Body 3x3mm, Pitch 0.65mm, IPC Low Density)
pins: 1 COMP "Compensation pin", 2 FB (in) "Feedback pin", 3 EN (in) "Shutdown control input. Connect this pin to logic high level to enable the device", 4 PGND (power) "Power ground", 5 SW (power) "Switch pin", 6 IN (power) "Input supply pin", 7 FREQ (in) "Frequency select pin. The power switch operates at 650 kHz if FREQ is connected to GND and at 1.2 MHz if FREQ is connected to IN", 8 SS (in) "Soft-start control pin. Connect a capacitor to this pin if soft-start needed. Open = no soft-start"

## TPS61085TDGKRQ1
designator U?
Automotive Catalog 18.5 V, 2 A, 650 KHz / 1.2 MHz Step-Up DC-DC Converter with Forced PWM Mode, 2.3 to 6 V, -40 to 105 degC, 8-pin SOP (DGK8), Green (RoHS & no Sb/Br); Manufacturer: Texas Instruments; PartNumber: TPS61085TDGKRQ1; Iout(Max)(A): 2; Iq(Typ)(mA): 0.07; SubFamily: White LED Driver; Switching Frequency(Max)(kHz): 1500; Topology: Boost; Vin(Max)(V): 6; Vin(Min)(V): 2.3; DatasheetVersion: SLVSAI9; PackageVersion: 4073329/E; PackageReference: DGK8; PackageDescription: 8-Pin Thin Small Outline Package 3 x 3 mm Body ,0.65 mm Pitch; Supplier 1: Digi-Key; Supplier Part Number 1: TPS61085TDGKRQ1-ND; Supplier 2: Newark; Supplier Part Number 2: 13T5952; Supplier 3: Mouser; Supplier Part Number 3: 595-TPS61085TDGKRQ1; Eco-Plan: Green (RoHS & no Sb/Br); Rating: Automotive; Mounting Technology: Surface Mount; Code_JEDEC: MO-187; ComponentLink1Description: Manufacturer URL; ComponentLink1URL: http://www.ti.com/; ComponentLink2Description: Datasheet; ComponentLink2URL: http://www.ti.com/general/docs/lit/getliterature.tsp?genericPartNumber=TPS61085-Q1&fileType=pdf; ComponentLink3Description: Package Specification; ComponentLink3URL: http://www.ti.com/litv/pdf/mpds028d
footprint TI-DGK8_N (SOP, 8-Leads, Body 3x3mm, Pitch 0.65mm, IPC Medium Density)
footprint TI-DGK8_L (SOP, 8-Leads, Body 3x3mm, Pitch 0.65mm, IPC High Density)
footprint TI-DGK8_M (SOP, 8-Leads, Body 3x3mm, Pitch 0.65mm, IPC Low Density)
pins: 1 COMP "Compensation pin", 2 FB (in) "Feedback pin", 3 EN (in) "Shutdown control input. Connect this pin to logic high level to enable the device", 4 PGND (power) "Power ground", 5 SW (power) "Switch pin", 6 IN (power) "Input supply pin", 7 FREQ (in) "Frequency select pin. The power switch operates at 650 kHz if FREQ is connected to GND and at 1.2 MHz if FREQ is connected to IN", 8 SS (in) "Soft-start control pin. Connect a capacitor to this pin if soft-start needed. Open = no soft-start"

## TPS61085TPWR
designator U?
Step-Up DC-DC Converter with Forced PWM Mode, 2.3 to 6 V, -40 to 105 degC, 8-pin SOP (PW8), Green (RoHS & no Sb/Br); Manufacturer: Texas Instruments; PartNumber: TPS61085TPWR; Iout(Max)(A): 2; Iq(Typ)(mA): 0.07; Rating: Catalog; SubFamily: White LED Driver; Switching Frequency(Typ)(kHz): 650; Vin(Max)(V): 6; Vin(Min)(V): 2.3; DatasheetVersion: SLVSA41A; PackageVersion: 4040064-2/G; PackageReference: PW8; PackageDescription: 8-Pin Plastic Small Outline, Body 4.4 x 3 mm, Pitch 0.65 mm; Supplier 1: Digi-Key; Supplier Part Number 1: 296-25728-2-ND; Supplier 2: Digi-Key; Supplier Part Number 2: 296-25728-1-ND; Supplier 3: Digi-Key; Supplier Part Number 3: 296-25728-6-ND; Supplier 4: Newark; Supplier Part Number 4: 64R0760; Supplier 5: Mouser; Supplier Part Number 5: 595-TPS61085TPWR; Mounting Technology: Surface Mount; Code_JEDEC: MO-153; ComponentLink1Description: Manufacturer URL; ComponentLink1URL: http://www.ti.com/; ComponentLink2Description: Datasheet; ComponentLink2URL: http://www.ti.com/general/docs/lit/getliterature.tsp?genericPartNumber=TPS61085T&fileType=pdf; ComponentLink3Description: Package Specification; ComponentLink3URL: http://www.ti.com/litv/pdf/mtss001d
footprint TI-PW8_N (SOP, 8-Leads, Body 4.4x3mm, Pitch 0.65mm, IPC Medium Density)
footprint TI-PW8_L (SOP, 8-Leads, Body 4.4x3mm, Pitch 0.65mm, IPC High Density)
footprint TI-PW8_M (SOP, 8-Leads, Body 4.4x3mm, Pitch 0.65mm, IPC Low Density)
pins: 1 COMP "Compensation pin", 2 FB (in) "Feedback pin", 3 EN (in) "Shutdown control input. Connect this pin to logic high level to enable the device", 4 PGND (power) "Power ground", 5 SW (power) "Switch pin", 6 IN (power) "Input supply pin", 7 FREQ (in) "Frequency select pin. The power switch operates at 650 kHz if FREQ is connected to GND and at 1.2 MHz if FREQ is connected to IN", 8 SS (in) "Soft-start control pin. Connect a capacitor to this pin if soft-start needed. Open = no soft-start"

## TPS61086DRCR
designator U?
18.5 V PFM / PWM High Efficiency Step-Up DC-DC Converter with 2.0 A Switch, 2.3 to 6 V, -40 to 85 degC, 10-pin SON (DRC10), Green (RoHS & no Sb/Br); Manufacturer: Texas Instruments; PartNumber: TPS61086DRCR; Iout(Max)(A): 2; Iq(Typ)(mA): 0.07; Rating: Catalog; SubFamily: White LED Driver; Switching Frequency(Typ)(kHz): 1200; Topology: Boost; Vin(Max)(V): 6; Vin(Min)(V): 2.3; DatasheetVersion: SLVSA05; PackageVersion: 4204102-3/L; PackageReference: DRC10-2400X1650TP; PackageDescription: 10-Pin Plastic Small Outline, Body 3 x 3 mm, Pitch 0.5 mm; Supplier 1: Digi-Key; Supplier Part Number 1: TPS61086DRCR-ND; Supplier 2: Mouser; Supplier Part Number 2: 595-TPS61086DRCR; Eco-Plan: Green (RoHS & no Sb/Br); Mounting Technology: Surface Mount; ComponentLink1Description: Manufacturer URL; ComponentLink1URL: http://www.ti.com/; ComponentLink2Description: Datasheet; ComponentLink2URL: http://www.ti.com/general/docs/lit/getliterature.tsp?genericPartNumber=TPS61086&fileType=pdf; ComponentLink3Description: Package Specification; ComponentLink3URL: http://www.ti.com/litv/pdf/mpds117k
footprint TI-DRC10-2400X1650TP_V (SON, 10-Leads, Body 3x3mm, Pitch 0.5mm, Thermal Pad 3x1.65mm)
pins: 1 COMP "Compensation pin", 2 FB (in) "Feedback pin", 3 EN (in) "Shutdown control input. Connect this pin to logic high level to enable the device", 4 AGND (power) "Analog ground", 5 PGND (power) "Power ground", 6 SW (power) "Switch pin", 7 SW (power) "Switch pin", 8 IN (power) "Input supply pin", 9 MODE (in) "Operating mode selection pin. MODE = 'high' for forced PWM operation. MODE = 'low' for PFM operation", 10 SS (in) "Soft-start control pin. Connect a capacitor to this pin if soft-start needed. Open = no soft-start", 11 TP (power) "Analog ground"

## TPS61086DRCT
designator U?
18.5 V PFM / PWM High Efficiency Step-Up DC-DC Converter with 2.0 A Switch, 2.3 to 6 V, -40 to 85 degC, 10-pin SON (DRC10), Green (RoHS & no Sb/Br); Manufacturer: Texas Instruments; PartNumber: TPS61086DRCT; Iout(Max)(A): 2; Iq(Typ)(mA): 0.07; Rating: Catalog; SubFamily: White LED Driver; Switching Frequency(Typ)(kHz): 1200; Topology: Boost; Vin(Max)(V): 6; Vin(Min)(V): 2.3; DatasheetVersion: SLVSA05; PackageVersion: 4204102-3/L; PackageReference: DRC10-2400X1650TP; PackageDescription: 10-Pin Plastic Small Outline, Body 3 x 3 mm, Pitch 0.5 mm; Supplier 1: Digi-Key; Supplier Part Number 1: 296-25123-2-ND; Supplier 2: Digi-Key; Supplier Part Number 2: 296-25123-1-ND; Supplier 3: Digi-Key; Supplier Part Number 3: 296-25123-6-ND; Supplier 4: Farnell; Supplier Part Number 4: 1762992RL; Supplier 5: Farnell; Supplier Part Number 5: 1762992; Supplier 6: Newark; Supplier Part Number 6: 26R5220; Supplier 7: Mouser; Supplier Part Number 7: 595-TPS61086DRCT; Eco-Plan: Green (RoHS & no Sb/Br); Mounting Technology: Surface Mount; ComponentLink1Description: Manufacturer URL; ComponentLink1URL: http://www.ti.com/; ComponentLink2Description: Datasheet; ComponentLink2URL: http://www.ti.com/general/docs/lit/getliterature.tsp?genericPartNumber=TPS61086&fileType=pdf; ComponentLink3Description: Package Specification; ComponentLink3URL: http://www.ti.com/litv/pdf/mpds117k
footprint TI-DRC10-2400X1650TP_V (SON, 10-Leads, Body 3x3mm, Pitch 0.5mm, Thermal Pad 3x1.65mm)
pins: 1 COMP "Compensation pin", 2 FB (in) "Feedback pin", 3 EN (in) "Shutdown control input. Connect this pin to logic high level to enable the device", 4 AGND (power) "Analog ground", 5 PGND (power) "Power ground", 6 SW (power) "Switch pin", 7 SW (power) "Switch pin", 8 IN (power) "Input supply pin", 9 MODE (in) "Operating mode selection pin. MODE = 'high' for forced PWM operation. MODE = 'low' for PFM operation", 10 SS (in) "Soft-start control pin. Connect a capacitor to this pin if soft-start needed. Open = no soft-start", 11 TP (power) "Analog ground"

## TPS61087DRCR
designator U?
18.5 V, 3.2 A, 650 KHz / 1.2 MHz Step-Up DC-DC Converter with Forced PWM Mode, 2.5 to 6 V, -40 to 85 degC, 10-pin SON (DRC10), Green (RoHS & no Sb/Br); Manufacturer: Texas Instruments; PartNumber: TPS61087DRCR; Iout(Max)(A): 3.2; Iq(Typ)(mA): 0.075; Rating: Catalog; SubFamily: White LED Driver; Switching Frequency(Typ)(kHz): 650, 1200; Topology: Boost; Vin(Max)(V): 6; Vin(Min)(V): 2.5; DatasheetVersion: SLVS821B; PackageVersion: 4204102-3/L; PackageReference: DRC10-2400X1650TP; PackageDescription: 10-Pin Plastic Small Outline, Body 3 x 3 mm, Pitch 0.5 mm; Supplier 1: Digi-Key; Supplier Part Number 1: 296-27012-2-ND; Supplier 2: Digi-Key; Supplier Part Number 2: 296-27012-1-ND; Supplier 3: Digi-Key; Supplier Part Number 3: 296-27012-6-ND; Supplier 4: Newark; Supplier Part Number 4: 11N9843; Supplier 5: Mouser; Supplier Part Number 5: 595-TPS61087DRCR; Eco-Plan: Green (RoHS & no Sb/Br); Mounting Technology: Surface Mount; ComponentLink1Description: Manufacturer URL; ComponentLink1URL: http://www.ti.com/; ComponentLink2Description: Datasheet; ComponentLink2URL: http://www.ti.com/general/docs/lit/getliterature.tsp?genericPartNumber=TPS61087&fileType=pdf; ComponentLink3Description: Package Specification; ComponentLink3URL: http://www.ti.com/litv/pdf/mpds117k
footprint TI-DRC10-2400X1650TP_V (SON, 10-Leads, Body 3x3mm, Pitch 0.5mm, Thermal Pad 3x1.65mm)
pins: 1 COMP "Compensation pin", 2 FB (in) "Feedback pin", 3 EN (in) "Shutdown control input. Connect this pin to logic high level to enable the device", 4 AGND (power) "Analog ground", 5 PGND (power) "Power ground", 6 SW (power) "Switch pin", 7 SW (power) "Switch pin", 8 IN (power) "Input supply pin", 9 FREQ (in) "Frequency select pin. The power switch operates at 650 kHz if FREQ is connected to GND and at 1.2 MHz if FREQ is connected to IN", 10 SS (in) "Soft-start control pin. Connect a capacitor to this pin if soft-start needed. Open = no soft-start", 11 TP (power) "Analog ground"